# Altium footprint library RJ-45_LED_TRAFO.PcbLib: 1 footprints
Each footprint in its own frame and in the unit in brackets; x right, y up, seen from the top. Pads: shape width x height; smd on the part's side, far side on the other; paste and mask are expansions set on the pad; w line width, h text height; cw(c..) or ccw(c..) is an arc to the next point about the centre after c.
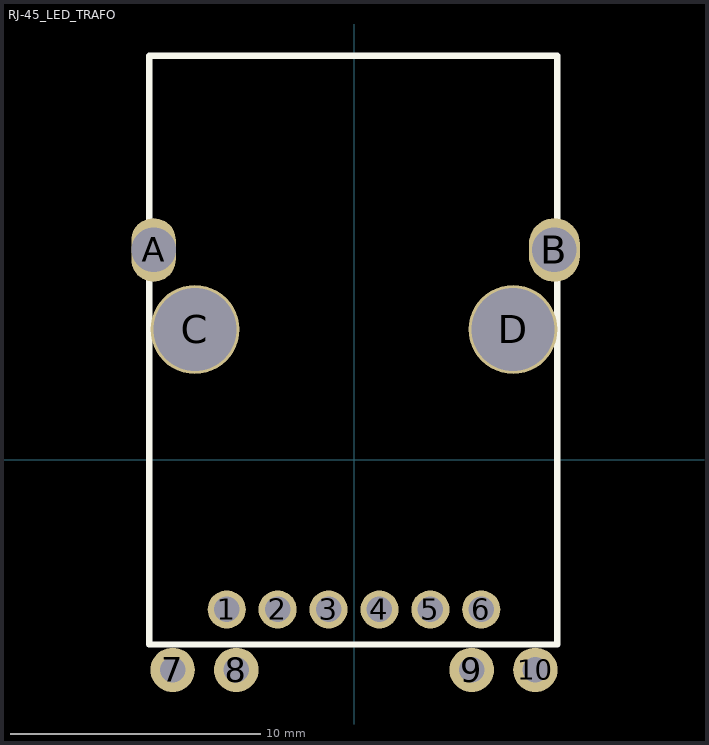
[diagram p0: the footprint, top view; thin cyan lines are the x and y axes]

## RJ-45_LED_TRAFO [mil]
pads (14):
  round 60 hole 40: 1(-200,-235) 2(-120,-235) 3(-40,-235) 4(40,-235) 5(120,-235) 6(200,-235)
  round 70 hole 40: 7(-285,-330) 8(-185,-330) 9(185,-330) 10(285,-330)
  oval 70x100 hole 70: A(-315,330)
  oval 80x100 hole 70: B(315,330)
  round 140 hole 130: C(-250,205) D(250,205)
Top Overlay:
  lines w10: -322.05,-290.12 319.69,-290.12 319.69,635.08 -322.05,635.08 -322.05,-290.12
3D body: height 527.56, standoff 0, extent -327.05,-360 324.69,635